# Altium footprint library 4 Pin 100 mil Vertical Header - Through Hole.PcbLib: 1 footprints
Each footprint in its own frame and in the unit in brackets; x right, y up, seen from the top. Pads: shape width x height; smd on the part's side, far side on the other; paste and mask are expansions set on the pad; w line width, h text height; cw(c..) or ccw(c..) is an arc to the next point about the centre after c.
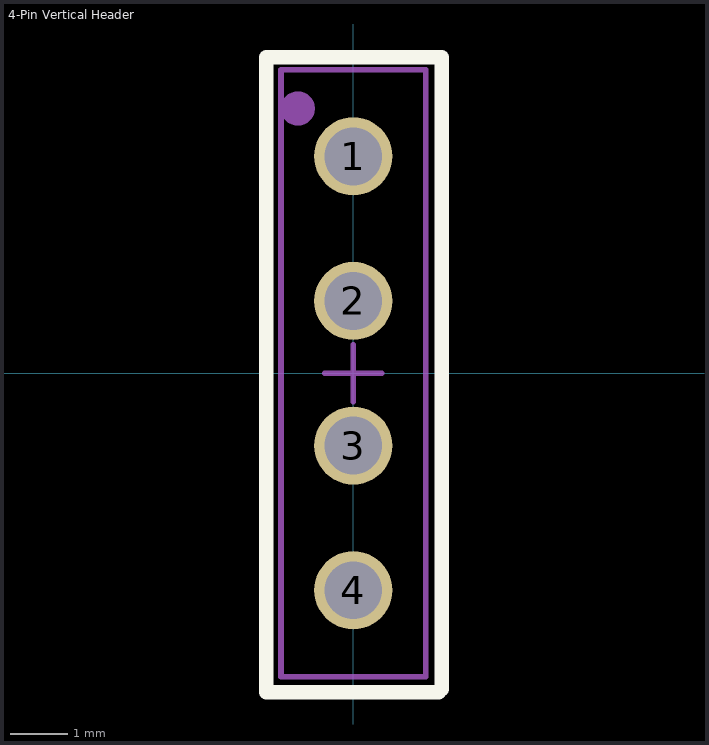
[diagram p0: the footprint, top view; thin cyan lines are the x and y axes]

## 4-Pin Vertical Header [mil]
pads (4):
  round 54 hole 40: 1(0,150) 2(0,50) 3(0,-50) 4(0,-150)
Top Overlay:
  lines w10: -60.04,-220.47 59.06,-220.47 61.02,-218.5 61.02,218.5 -60.04,218.5 -60.04,-220.47
Mechanical 6:
  text "'.Designator'" at 9.84,-45.28 h23.62
Mechanical 8:
  circle w11.81: c-38.39,183.07 r5.91
  lines w1.97: -60.04,-219.49 -60.04,219.49 60.04,219.49 60.04,-219.49 -60.04,-219.49
Mechanical 13:
  lines w3.94: -50,-209.84 -50,209.84 50,209.84 50,-209.84 -50,-209.84
Mechanical 15:
  lines w1.97: -60.04,-219.49 60.04,-219.49 60.04,219.49 -60.04,219.49 -60.04,-219.49
  lines w3.94: -19.69,0 19.68,0 ; 0,-19.68 0,19.68
3D body "_ _ _C041LFBN-RC.STEP": height 334.65, standoff -125.98, extent -50,-209.84 50,209.84